# Altium schematic symbol library SEMATIK_LIB.SchLib: 632 symbols (part 7 of 21)
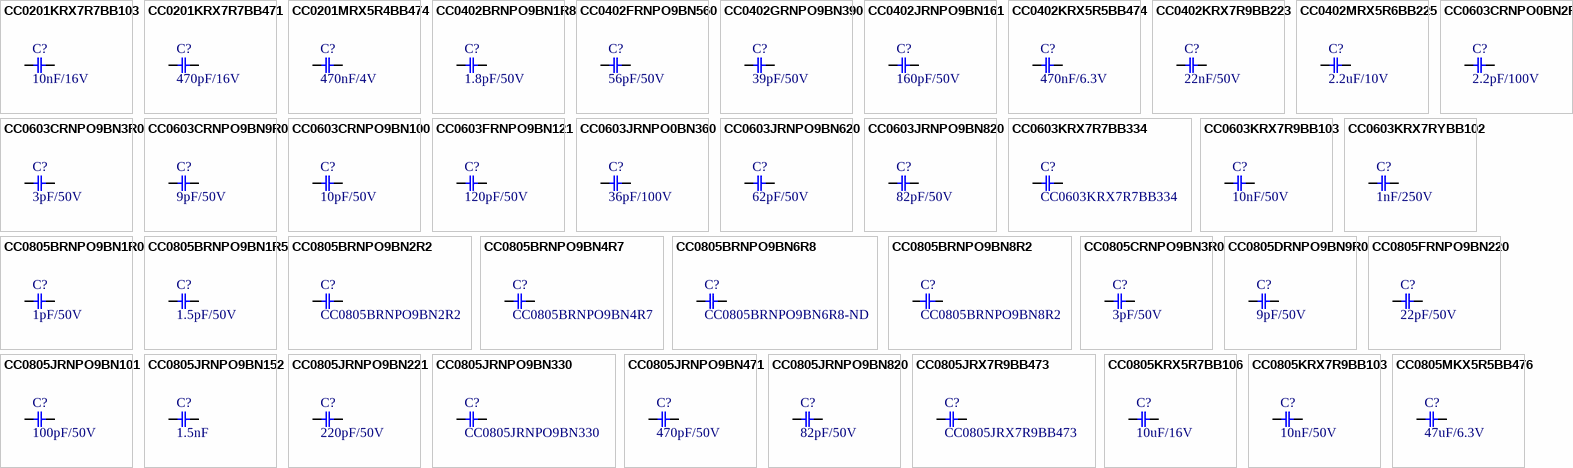
[diagram p22: symbols CC0201KRX7R7BB103 to CC0805MKX5R5BB476]

## CC0805JRNPO9BN101
designator C?, comment 100pF/50V
CAP CER pF 100 50V C0G/NPO 0805; Manufacturer 1: Yageo; Manufacturer Part Number 1: CC0805JRNPO9BN101; Description 1: CAP CER 100PF 50V C0G/NPO 0805; Dielectric Material: Ceramic; Capacitance: 100pF; Tolerance: 5%; Dielectric: C0G; Temperature Coefficient: 30ppm/°C; Insulation Resistance: 100GR; Supplier 1: Digi-Key; Stock 1: 619496; Pricing 1: 1=0.11, 10=0.079, 100=0.0351, 500=0.0251, 1000=0.01972 (USD); Mount: Surface Mount; Case/Package: 0805; Number of Pins: 2; Case Code (Imperial): 0805; Case Code (Metric): 2012; Min Operating Temperature: -55°C; Max Operating Temperature: 125°C; Packaging: Tape and Reel; Voltage Rating: 50V; Package Quantity: 1; Voltage Rating (DC): 50V; Termination: SMD/SMT; Composition: Ceramic; Voltage: 50V; Length: 2mm; Height: 0.6mm; Width: 1.25mm; Thickness: 0.024inch; Depth: 1.25mm; Radiation Hardening: No; REACH SVHC: No SVHC; Lead Free: Lead Free; ComponentLink1URL: http://www.mouser.com/ds/2/447/Yageo_UPY-GP_NP0_16V-to-50V_9-358835.pdf?src-supplier=Mouser; ComponentLink1Description: http://www.mouser.com/ds/2/447/Yageo_UPY-GP_NP0_16V-to-50V_9-358835.pdf?src-supplier=Mouser; ComponentLink2URL: https://www.verical.com/server-webapp/html/getDatasheet?partID=92514&src-supplier=Verical; ComponentLink2Description: https://www.verical.com/server-webapp/html/getDatasheet?partID=92514&src-supplier=Verical; ComponentLink3URL: http://www.yageo.com/documents/recent/UPY-GP_NP0_16V-to-50V_16.pdf?src-supplier=Digi-Key; ComponentLink3Description: http://www.yageo.com/documents/recent/UPY-GP_NP0_16V-to-50V_16.pdf?src-supplier=Digi-Key; ComponentLink4URL: http://www.yageo.com/documents/recent/UPY-GP_NP0_16V-to-50V_8.pdf?src-supplier=Avnet; ComponentLink4Description: http://www.yageo.com/documents/recent/UPY-GP_NP0_16V-to-50V_8.pdf?src-supplier=Avnet; ComponentLink5URL: http://www.farnell.com/datasheets/1443161.pdf?src-supplier=Element14; ComponentLink5Description: http://www.farnell.com/datasheets/1443161.pdf?src-supplier=Element14; Supplier Part Number 1: 311-1111-1-ND
footprint Cap_0805
pins: 1, 2

## CC0805JRNPO9BN152
designator C?, comment 1.5nF
CAP CER nF 1.5 50V C0G/NPO 0805; Manufacturer: Yageo; Manufacturer Part Number: CC0805JRNPO9BN152; Tolerance: 5%; Dielectric: C0G; Dissipation Factor: 0.1%; Insulation Resistance: 10GR; Supplier 1: Digi-Key; RoHS: Yes; Category: Ceramic Capacitors; Stock 1: 28698; Pricing 1: 1=0,23000, 10=0,15700, 50=0,10460, 100=0,08900, 500=0,06280, 1000=0,05496 (USD); Mount: Surface Mount; Case/Package: 0805; Number of Pins: 2; Case Code (Imperial): 0805; Case Code (Metric): 2012; Weight: 0.000194oz; Min Operating Temperature: -55°C; Max Operating Temperature: 125°C; Packaging: Tape and Reel; Capacitance: 1.5nF; Voltage Rating: 50V; Voltage Rating (DC): 50V; Termination: SMD/SMT; Resistor Type: Ceramic; Series: CC; Length: 2mm; Width: 1.25mm; Height: 0.85mm; Thickness: 0.037inch; Depth: 1.25mm; Radiation Hardening: No; Lead Free: Lead Free; RoHS Compliant: Yes; ComponentLink1URL: https://datasheet.ciiva.com/13263/upy-gp-np0-16v-to-50v-8-3714-13263546.pdf?src-supplier=Mouser; ComponentLink1Description: https://datasheet.ciiva.com/13263/upy-gp-np0-16v-to-50v-8-3714-13263546.pdf?src-supplier=Mouser; ComponentLink2URL: https://datasheet.ciiva.com/11586/upy-gp-np0-16v-to-50v-8-11586202.pdf?src-supplier=Avnet; ComponentLink2Description: https://datasheet.ciiva.com/11586/upy-gp-np0-16v-to-50v-8-11586202.pdf?src-supplier=Avnet; Supplier Part Number 1: 311-3381-1-ND
footprint Cap_0805
pins: 1, 2

## CC0805JRNPO9BN221
designator C?, comment 220pF/50V
CAP CER pF 220 50V C0G/NPO 0805; Manufacturer 1: Yageo; Manufacturer Part Number 1: CC0805JRNPO9BN221; Description 1: CAP CER 220PF 50V C0G/NPO 0805; Material: Ceramic; Capacitance: 220pF; Tolerance: 5%; Dielectric: C0G; Insulation Resistance: 100GR; Supplier 1: Digi-Key; Stock 1: 212566; Pricing 1: 1=0.13, 10=0.095, 100=0.0448, 500=0.03144, 1000=0.02603 (USD); Mount: Surface Mount; Case/Package: 0805; Case Code (Metric): 2012; Case Code (Imperial): 0805; Dielectric Material: Ceramic; Min Operating Temperature: -55°C; Max Operating Temperature: 125°C; Voltage Rating: 50V; Voltage Rating (DC): 50V; Packaging: Tape and Reel; Package Quantity: 1; Termination: SMD/SMT; Composition: Ceramic; Voltage: 50V; Length: 2mm; Height: 0.6mm; Width: 0.049inch; Thickness: 0.024inch; Depth: 1.25mm; Radiation Hardening: No; REACH SVHC: Unknown; Lead Free: Lead Free; ComponentLink1URL: http://www.yageo.com/documents/recent/UPY-GP_NP0_16V-to-50V_16.pdf?src-supplier=Digi-Key; ComponentLink1Description: http://www.yageo.com/documents/recent/UPY-GP_NP0_16V-to-50V_16.pdf?src-supplier=Digi-Key; ComponentLink2URL: http://www.yageo.com/documents/recent/UPY-GP_NP0_16V-to-50V_8.pdf?src-supplier=Avnet; ComponentLink2Description: http://www.yageo.com/documents/recent/UPY-GP_NP0_16V-to-50V_8.pdf?src-supplier=Avnet; ComponentLink3URL: http://www.farnell.com/datasheets/1443161.pdf?src-supplier=Element14; ComponentLink3Description: http://www.farnell.com/datasheets/1443161.pdf?src-supplier=Element14; Supplier Part Number 1: 311-1115-1-ND
footprint Cap_0805
pins: 1, 2

## CC0805JRNPO9BN330
designator C?
CAP CER pF 33 50V C0G/NPO 0805; Manufacturer 1: Yageo; Description 1: CAP CER 33PF 50V C0G/NPO 0805; Material: Ceramic; Capacitance: 33pF; Tolerance: 5%; Dielectric: C0G; Supplier 1: Digi-Key; Manufacturer Part Number 1: CC0805JRNPO9BN330; Stock 1: 205747; Pricing 1: 1=0.11, 10=0.079, 100=0.0352, 500=0.02514, 1000=0.01975 (USD); Mount: Surface Mount; Case/Package: 0805; Case Code (Imperial): 0805; Case Code (Metric): 2012; Dielectric Material: Ceramic; Min Operating Temperature: -55°C; Max Operating Temperature: 125°C; Package Quantity: 1; Voltage Rating: 50V; Voltage Rating (DC): 50V; Packaging: Tape and Reel; Termination: SMD/SMT; Composition: Ceramic; Voltage: 50V; Length: 2mm; Height: 0.6mm; Width: 1.25mm; Thickness: 0.024inch; Depth: 1.25mm; Radiation Hardening: No; REACH SVHC: Unknown; Lead Free: Lead Free; ComponentLink1URL: http://www.yageo.com/documents/recent/UPY-GP_NP0_16V-to-50V_8.pdf?src-supplier=Avnet+Europe; ComponentLink1Description: http://www.yageo.com/documents/recent/UPY-GP_NP0_16V-to-50V_8.pdf?src-supplier=Avnet+Europe; ComponentLink2URL: http://www.farnell.com/datasheets/1443161.pdf?src-supplier=Element14; ComponentLink2Description: http://www.farnell.com/datasheets/1443161.pdf?src-supplier=Element14; ComponentLink3URL: http://www.yageo.com/documents/recent/UPY-GP_NP0_16V-to-50V_16.pdf?src-supplier=Digi-Key; ComponentLink3Description: http://www.yageo.com/documents/recent/UPY-GP_NP0_16V-to-50V_16.pdf?src-supplier=Digi-Key; ComponentLink4URL: http://www.yageo.com/documents/recent/UPY-GP_NP0_16V-to-50V_8.pdf?src-supplier=Avnet; ComponentLink4Description: http://www.yageo.com/documents/recent/UPY-GP_NP0_16V-to-50V_8.pdf?src-supplier=Avnet; ComponentLink5URL: https://produktinfo.conrad.com/datenblaetter/425000-449999/445349-da-01-en-KERKO_CHIP_0805_NP0_33pF_5Proz_50V_G.pdf?src-supplier=Conrad; ComponentLink5Description: https://produktinfo.conrad.com/datenblaetter/425000-449999/445349-da-01-en-KERKO_CHIP_0805_NP0_33pF_5Proz_50V_G.pdf?src-supplier=Conrad; Supplier Part Number 1: 311-1105-1-ND
footprint Cap_0805
pins: 1, 2

## CC0805JRNPO9BN471
designator C?, comment 470pF/50V
CAP CER pF 470 50V C0G/NPO 0805; Manufacturer 1: Yageo; Manufacturer Part Number 1: CC0805JRNPO9BN471; Description 1: CAP CER 470PF 50V C0G/NPO 0805; Material: Ceramic; Capacitance: 470pF; Tolerance: 5%; Dielectric: C0G; Temperature Coefficient: 30ppm/°C; Insulation Resistance: 100GR; Supplier 1: Digi-Key; Stock 1: 322742; Pricing 1: 1=0.13, 10=0.095, 100=0.0448, 500=0.03144, 1000=0.02603 (USD); Mount: Surface Mount; Case/Package: 0805; Case Code (Metric): 2012; Case Code (Imperial): 0805; Dielectric Material: Ceramic; Min Operating Temperature: -55°C; Max Operating Temperature: 125°C; Voltage Rating: 50V; Voltage Rating (DC): 50V; Package Quantity: 4000; Packaging: Tape and Reel; Termination: SMD/SMT; Composition: Ceramic; Voltage: 50V; Length: 2mm; Height: 0.6mm; Width: 0.049inch; Thickness: 0.024inch; Depth: 1.25mm; Radiation Hardening: No; REACH SVHC: Unknown; Lead Free: Lead Free; ComponentLink1URL: http://www.farnell.com/datasheets/2213336.pdf?src-supplier=Newark; ComponentLink1Description: http://www.farnell.com/datasheets/2213336.pdf?src-supplier=Newark; ComponentLink2URL: http://www.yageo.com/documents/recent/UPY-GP_NP0_16V-to-50V_16.pdf?src-supplier=Digi-Key; ComponentLink2Description: http://www.yageo.com/documents/recent/UPY-GP_NP0_16V-to-50V_16.pdf?src-supplier=Digi-Key; ComponentLink3URL: http://www.farnell.com/datasheets/1443161.pdf?src-supplier=Element14; ComponentLink3Description: http://www.farnell.com/datasheets/1443161.pdf?src-supplier=Element14; ComponentLink4URL: http://documents.rs-components.com/techlib://itc_doclist_GB.htm?stockno=6698928&src-supplier=RSComponents; ComponentLink4Description: http://documents.rs-components.com/techlib://itc_doclist_GB.htm?stockno=6698928&src-supplier=RSComponents; ComponentLink5URL: http://www.yageo.com/documents/recent/UPY-GP_NP0_16V-to-50V_8.pdf?src-supplier=Avnet+Europe; ComponentLink5Description: http://www.yageo.com/documents/recent/UPY-GP_NP0_16V-to-50V_8.pdf?src-supplier=Avnet+Europe; ComponentLink6URL: http://www.farnell.com/datasheets/2213336.pdf?src-supplier=Element14; ComponentLink6Description: http://www.farnell.com/datasheets/2213336.pdf?src-supplier=Element14; Supplier Part Number 1: 311-1119-6-ND
footprint Cap_0805
pins: 1, 2

## CC0805JRNPO9BN820
designator C?, comment 82pF/50V
CAP CER pF 82 50V C0G/NPO 0805; Manufacturer: Yageo; Manufacturer Part Number: CC0805JRNPO9BN820; Material: Ceramic; Capacitance: 82pF; Tolerance: 5%; Dielectric: C0G; Supplier 1: Digi-Key; RoHS: Yes; Category: Ceramic Capacitors; Stock 1: 76000; Pricing 1: 4000=0,01566, 8000=0,01430 (USD); Mount: Surface Mount; Case/Package: 0805; Case Code (Imperial): 0805; Case Code (Metric): 2012; Weight: 0.000194oz; Min Operating Temperature: -55°C; Max Operating Temperature: 125°C; Package Quantity: 1; Voltage Rating: 50V; Voltage Rating (DC): 50V; Packaging: Tape and Reel; Termination: SMD/SMT; Resistor Type: Ceramic; Series: CC; Length: 2mm; Width: 1.25mm; Height: 0.6mm; Thickness: 0.024inch; Depth: 1.25mm; Radiation Hardening: No; Lead Free: Lead Free; RoHS Compliant: Yes; ComponentLink1URL: https://datasheet.ciiva.com/15189/getdatasheetpartid-137824-15189191.pdf?src-supplier=Verical; ComponentLink1Description: https://datasheet.ciiva.com/15189/getdatasheetpartid-137824-15189191.pdf?src-supplier=Verical; ComponentLink2URL: https://datasheet.ciiva.com/144/mlccorderingcode-144858.pdf?src-supplier=Digi-Key; ComponentLink2Description: https://datasheet.ciiva.com/144/mlccorderingcode-144858.pdf?src-supplier=Digi-Key; ComponentLink3URL: https://datasheet.ciiva.com/11586/upy-gp-np0-16v-to-50v-8-11586219.pdf?src-supplier=Avnet; ComponentLink3Description: https://datasheet.ciiva.com/11586/upy-gp-np0-16v-to-50v-8-11586219.pdf?src-supplier=Avnet; ComponentLink4URL: https://datasheet.ciiva.com/17434/upy-gp-np0-16v-to-50v-8-17434828.pdf?src-supplier=Avnet+Europe; ComponentLink4Description: https://datasheet.ciiva.com/17434/upy-gp-np0-16v-to-50v-8-17434828.pdf?src-supplier=Avnet+Europe; ComponentLink5URL: https://datasheet.ciiva.com/144/mlccorderingcode-144857.pdf?src-supplier=Digi-Key; ComponentLink5Description: https://datasheet.ciiva.com/144/mlccorderingcode-144857.pdf?src-supplier=Digi-Key; ComponentLink6URL: https://datasheet.ciiva.com/144/mlccorderingcode-144859.pdf?src-supplier=Digi-Key; ComponentLink6Description: https://datasheet.ciiva.com/144/mlccorderingcode-144859.pdf?src-supplier=Digi-Key; Supplier Part Number 1: 311-1110-2-ND
footprint Cap_0805
pins: 1, 2

## CC0805JRX7R9BB473
designator C?
CAP CER nF 47 50V X7R 5% 0805; Manufacturer 1: Yageo; Description 1: Multilayer Ceramic Capacitors MLCC - SMD/SMT 47nF 50V X7R 5%; Capacitance: 47nF; Supplier 1: Digi-Key; Manufacturer Part Number 1: CC0805JRX7R9BB473; Stock 1: 9419; Pricing 1: 1=0.18, 10=0.128, 100=0.06, 500=0.04206, 1000=0.03482 (USD); Mount: Surface Mount; Case/Package: 0805; Weight: 0.000194oz; Case Code (Imperial): 0805; Case Code (Metric): 2012; Min Operating Temperature: -55°C; Max Operating Temperature: 125°C; Tolerance: 5%; Voltage Rating: 50V; Voltage Rating (DC): 50V; Packaging: Tape and Reel; Dielectric: X7R; Termination: SMD/SMT; Composition: Ceramic; Length: 2mm; Height: 0.85mm; Width: 1.25mm; Thickness: 0.037inch; Depth: 1.25mm; Radiation Hardening: No; Lead Free: Lead Free; Halogen Free: Halogen Free; ComponentLink1URL: http://www.yageo.com/documents/recent/UPY-GPHC_X7R_6.3V-to-50V_8.pdf?src-supplier=Avnet+Europe; ComponentLink1Description: http://www.yageo.com/documents/recent/UPY-GPHC_X7R_6.3V-to-50V_8.pdf?src-supplier=Avnet+Europe; ComponentLink2URL: http://www.yageo.com/documents/recent/UPY-GPHC_X7R_6.3V-to-50V_8.pdf?src-supplier=Avnet; ComponentLink2Description: http://www.yageo.com/documents/recent/UPY-GPHC_X7R_6.3V-to-50V_8.pdf?src-supplier=Avnet; ComponentLink3URL: http://www.mouser.com/ds/2/447/Yageo_UPY-GP_NP0_16V-to-50V_9-358835.pdf?src-supplier=Mouser; ComponentLink3Description: http://www.mouser.com/ds/2/447/Yageo_UPY-GP_NP0_16V-to-50V_9-358835.pdf?src-supplier=Mouser; ComponentLink4URL: https://www.verical.com/server-webapp/html/getDatasheet?partID=403673&src-supplier=Verical; ComponentLink4Description: https://www.verical.com/server-webapp/html/getDatasheet?partID=403673&src-supplier=Verical; Supplier Part Number 1: 311-3553-1-ND
footprint Cap_0805
pins: 1, 2

## CC0805KRX5R7BB106
designator C?, comment 10uF/16V
CAP CER uF 10 16V X5R 0805; Manufacturer: Yageo; Manufacturer Part Number: CC0805KRX5R7BB106; Capacitance: 10uF; Tolerance: 10%; Supplier 1: Digi-Key; RoHS: Yes; Category: Ceramic Capacitors; Stock 1: 1087288; Pricing 1: 1=0,57000, 10=0,39400, 50=0,27540, 100=0,23610, 500=0,17708, 1000=0,14954 (USD); Mount: Surface Mount; Case/Package: 0805; Case Code (Imperial): 0805; Case Code (Metric): 2012; Min Operating Temperature: -55°C; Max Operating Temperature: 85°C; Packaging: Tape and Reel; Voltage Rating: 16V; RoHS Compliant: Yes; ComponentLink1URL: http://www.yageo.com/documents/recent/UPY-GPHC_X5R_4V-to-50V_25.pdf?src-supplier=Digi-Key; ComponentLink1Description: http://www.yageo.com/documents/recent/UPY-GPHC_X5R_4V-to-50V_25.pdf?src-supplier=Digi-Key; Supplier Part Number 1: 311-3502-1-ND
footprint Cap_0805
pins: 1, 2

## CC0805KRX7R9BB103
designator C?, comment 10nF/50V
CAP CER nF 10 50V X7R 0805; Manufacturer 1: Yageo; Manufacturer Part Number 1: CC0805KRX7R9BB103; Description 1: YAGEO (PHYCOMP)         CC0805KRX7R9BB103            SMD Multilayer Ceramic Capacitor, CC Series, 0.01 F,  10%, X7R, 50 V, 0805 [2012 Metric]; Material: Ceramic; Capacitance: 10nF; Tolerance: 10%; Insulation Resistance: 100GR; Supplier 1: Digi-Key; Stock 1: 7864628; Pricing 1: 1=0.1, 10=0.07, 100=0.0313, 500=0.02234, 1000=0.01755 (USD); Mount: Surface Mount; Case/Package: 0805; Number of Pins: 2; Case Code (Imperial): 0805; Case Code (Metric): 2012; Min Operating Temperature: -55°C; Max Operating Temperature: 125°C; Packaging: Tape and Reel; Voltage Rating: 50V; Package Quantity: 1; Voltage Rating (DC): 50V; Dielectric: X7R; Termination: SMD/SMT; Composition: Ceramic; Voltage: 50V; Length: 2mm; Height: 0.6mm; Width: 1.25mm; Thickness: 0.024inch; Depth: 1.25mm; Radiation Hardening: No; REACH SVHC: No SVHC; Lead Free: Lead Free; Halogen Free: Halogen Free; ComponentLink1URL: http://www.yageo.com/documents/recent/UPY-GPHC_X7R_6.3V-to-50V_18.pdf?src-supplier=Digi-Key; ComponentLink1Description: http://www.yageo.com/documents/recent/UPY-GPHC_X7R_6.3V-to-50V_18.pdf?src-supplier=Digi-Key; ComponentLink2URL: http://www.yageo.com/documents/recent/UPY-GPHC_X7R_6.3V-to-50V_8.pdf?src-supplier=Avnet+Europe; ComponentLink2Description: http://www.yageo.com/documents/recent/UPY-GPHC_X7R_6.3V-to-50V_8.pdf?src-supplier=Avnet+Europe; ComponentLink3URL: http://www.farnell.com/datasheets/2167236.pdf?src-supplier=Element14; ComponentLink3Description: http://www.farnell.com/datasheets/2167236.pdf?src-supplier=Element14; ComponentLink4URL: http://www.farnell.com/datasheets/1489800.pdf?src-supplier=Element14; ComponentLink4Description: http://www.farnell.com/datasheets/1489800.pdf?src-supplier=Element14; Supplier Part Number 1: 311-1136-1-ND
footprint Cap_0805
pins: 1, 2

## CC0805MKX5R5BB476
designator C?, comment 47uF/6.3V
CAP CER uF 47 6.3V X5R 0805; Manufacturer: Yageo; Manufacturer Part Number: CC0805MKX5R5BB476; Capacitance: 47uF; Tolerance: 20%; Supplier 1: Digi-Key; Stock 1: 24000; Pricing 1: 3000 = 0,10022, 6000 = 0,09466, 9000 = 0,08909, 15000 = 0,08630 (USD); RoHS: Yes; Mount: Surface Mount; Case/Package: 0805; Weight: 0.000194oz; Case Code (Imperial): 0805; Case Code (Metric): 2012; Min Operating Temperature: -55°C; Max Operating Temperature: 85°C; Dielectric: X5R; Packaging: Tape and Reel; Voltage Rating (DC): 6.3V; Voltage Rating: 6.3V; Termination: SMD/SMT; Composition: Ceramic; Length: 2mm; Width: 0.049inch; Thickness: 0.057inch; Depth: 1.25mm; Radiation Hardening: No; Lead Free: Lead Free; Halogen Free: Halogen Free; ComponentLink1URL: http://components.arrow.com/part/dataview/0323_04166612?src-supplier=Arrow+Europe; ComponentLink1Description: http://components.arrow.com/part/dataview/0323_04166612?src-supplier=Arrow+Europe; ComponentLink2URL: http://www.mouser.com/ds/2/447/UPY-GPHC_X5R_4V-to-50V_25-1131599.pdf?src-supplier=Mouser; ComponentLink2Description: http://www.mouser.com/ds/2/447/UPY-GPHC_X5R_4V-to-50V_25-1131599.pdf?src-supplier=Mouser; ComponentLink3URL: http://www.yageo.com/documents/recent/UPY-GPHC_X5R_4V-to-50V_19.pdf?src-supplier=Avnet; ComponentLink3Description: http://www.yageo.com/documents/recent/UPY-GPHC_X5R_4V-to-50V_19.pdf?src-supplier=Avnet; ComponentLink4URL: http://www.yageo.com/documents/recent/UPY-GPHC_X5R_4V-to-50V_25.pdf?src-supplier=Digi-Key; ComponentLink4Description: http://www.yageo.com/documents/recent/UPY-GPHC_X5R_4V-to-50V_25.pdf?src-supplier=Digi-Key; Supplier Part Number 1: 311-1897-2-ND
footprint Cap_0805
pins: 1, 2

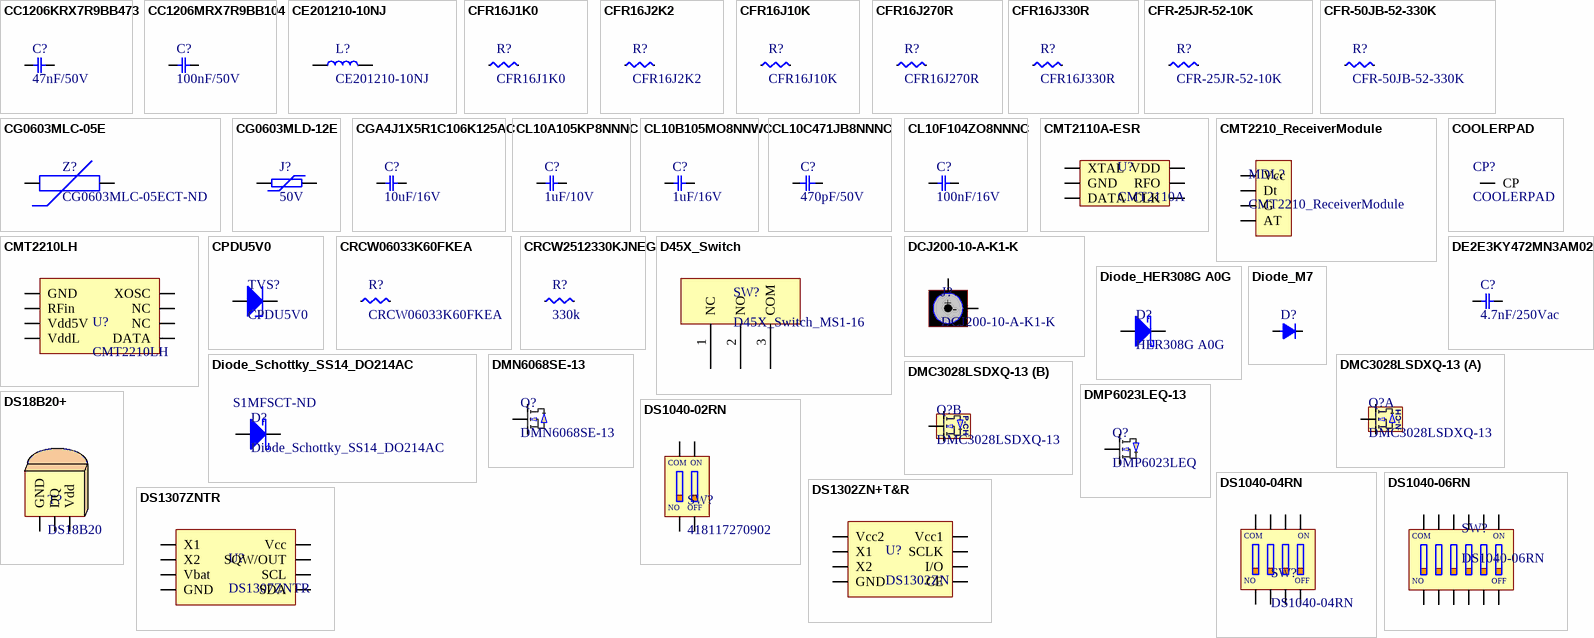
[diagram p5: symbols CC1206KRX7R9BB473 to DS1307ZNTR]

## CC1206KRX7R9BB473
designator C?, comment 47nF/50V
CAP CER nF 47 50V X7R 1206; Manufacturer 1: Yageo; Manufacturer Part Number 1: CC1206KRX7R9BB473; Description 1: CAP CER 0.047UF 50V X7R 1206; Material: Ceramic; Tolerance: 10%; Capacitance: 47nF; Insulation Resistance: 100GR; Supplier 1: Digi-Key; Stock 1: 98286; Pricing 1: 1=0.24, 10=0.167, 100=0.0844, 500=0.05772, 1000=0.05106 (USD); Mount: Surface Mount; Case/Package: 1206; Number of Pins: 2; Weight: 0.000571oz; Case Code (Metric): 3216; Case Code (Imperial): 1206; Dielectric Material: Ceramic; Min Operating Temperature: -55°C; Max Operating Temperature: 125°C; Packaging: Tape and Reel; Package Quantity: 1; Voltage Rating: 50V; Voltage Rating (DC): 50V; Dielectric: X7R; Termination: SMD/SMT; Composition: Ceramic; Voltage: 50V; Length: 3.2mm; Height: 0.85mm; Width: 1.6mm; Thickness: 0.033inch; Depth: 1.6mm; Radiation Hardening: No; REACH SVHC: Unknown; Lead Free: Lead Free; Halogen Free: Halogen Free; ComponentLink1URL: http://www.yageo.com/documents/recent/UPY-GPHC_X7R_6.3V-to-50V_18.pdf?src-supplier=Digi-Key; ComponentLink1Description: http://www.yageo.com/documents/recent/UPY-GPHC_X7R_6.3V-to-50V_18.pdf?src-supplier=Digi-Key; ComponentLink2URL: http://www.yageo.com/documents/recent/UPY-GPHC_X7R_6.3V-to-50V_8.pdf?src-supplier=Avnet; ComponentLink2Description: http://www.yageo.com/documents/recent/UPY-GPHC_X7R_6.3V-to-50V_8.pdf?src-supplier=Avnet; ComponentLink3URL: https://produktinfo.conrad.com/datenblaetter/425000-449999/445149-da-01-en-KERKO_CHIP_1206_X7R_0_047uF_10Proz_50VG.pdf?src-supplier=Conrad; ComponentLink3Description: https://produktinfo.conrad.com/datenblaetter/425000-449999/445149-da-01-en-KERKO_CHIP_1206_X7R_0_047uF_10Proz_50VG.pdf?src-supplier=Conrad; Supplier Part Number 1: 311-1178-1-ND
footprint Cap_1206
pins: 1, 2

## CC1206MRX7R9BB104
designator C?, comment 100nF/50V
CAP CER nF 100 50V X7R 1206; Manufacturer: Yageo; Manufacturer Part Number: CC1206MRX7R9BB104; Tolerance: 20%; Capacitance: 100nF; Supplier 1: Digi-Key; Stock 1: 28261; Pricing 1: 1 = 0,16000, 10 = 0,11200, 50 = 0,06360, 100 = 0,05260, 500 = 0,03690, 1000 = 0,03055 (USD); RoHS: Yes; Mount: Surface Mount; Case/Package: 1206; Case Code (Imperial): 1206; Case Code (Metric): 3216; Weight: 0.000571oz; Min Operating Temperature: -55°C; Max Operating Temperature: 125°C; Packaging: Tape and Reel; Voltage Rating (DC): 50V; Dielectric: X7R; Termination: SMD/SMT; Resistor Type: Ceramic; Voltage Rating: 50V; Series: CC; Length: 3.2mm; Width: 1.6mm; Thickness: 0.037inch; Depth: 1.6mm; Lead Free: Lead Free; Halogen Free: Halogen Free; RoHS Compliant: Yes; ComponentLink1URL: https://datasheet.ciiva.com/13264/upy-gp-np0-16v-to-50v-8-3714-13264939.pdf?src-supplier=Mouser; ComponentLink1Description: https://datasheet.ciiva.com/13264/upy-gp-np0-16v-to-50v-8-3714-13264939.pdf?src-supplier=Mouser; Supplier Part Number 1: 311-4502-1-ND
footprint Cap_1206
pins: 1, 2

## CE201210-10NJ
designator L?
Inductor Chip Multi-Layer 10nH 5% 100MHz 20Q-Factor Ceramic 300mA 300mOhm DCR 0805 Automotive T/R; Manufacturer 1: Bourns; Shielding: Unshielded; Q Factor: 20; Self Resonant Frequency: 2.1GHz; DC Resistance (DCR): 300mR; Supplier 1: Digi-Key; Manufacturer Part Number 1: CE201210-10NJ; Description 1: Inductor Chip Multi-Layer 10nH 5% 100MHz 20Q-Factor Ceramic 300mA 300mOhm DCR 0805 Automotive T/R; Stock 1: 23246; Pricing 1: 1=0.12, 10=0.104, 100=0.069, 500=0.0575, 1000=0.0483 (USD); Mount: Surface Mount; Case/Package: 0805; Weight: 0.000194oz; Case Code (Metric): 2012; Case Code (Imperial): 0805; Core Material: Ceramic; Min Operating Temperature: -55°C; Max Operating Temperature: 125°C; Package Quantity: 4000; Current Rating: 300mA; Tolerance: 5%; Packaging: Tape and Reel; Inductance: 10nH; Test Frequency: 100MHz; Current: 300mA; Composition: Ceramic; Max DC Current: 300mA; Termination: SMD/SMT; DC Current: 300mA; Military Standard: Not; Length: 0.079inch; Height: 0.83mm; Width: 0.049inch; Height - Seated (Max): 0.041inch; Depth: 1.45mm; Radiation Hardening: No; ComponentLink1URL: http://www.bourns.com/pdfs/CE201210.pdf?src-supplier=Avnet+Europe; ComponentLink1Description: http://www.bourns.com/pdfs/CE201210.pdf?src-supplier=Avnet+Europe; Supplier Part Number 1: CE201210-10NJCT-ND
footprint Cap_0805
pins: 1, 2

## CFR16J1K0
designator R?
RES Carbon Film 1K Ohm 5% 0.25W -1200  0ppm/C; Manufacturer 1: TE Connectivity; Description 1: TE Connectivity CFR16 Series Axial Carbon Film Resistor 1k 5% 0.25W -1200  0ppm/C; Resistance: 1kR; Power Rating: 250mW; Temperature Coefficient: 0ppm/°C; Voltage Rating: 200V; Number of Resistors: 1; Supplier 1: Digi-Key; Manufacturer Part Number 1: CFR16J1K0; Stock 1: 16097; Pricing 1: 1=0.1, 10=0.074, 25=0.0512, 50=0.0396, 100=0.0284, 250=0.02212, 500=0.01758, 1000=0.01247 (USD); Mount: Axial; Case/Package: Conformal; Min Operating Temperature: -55°C; Max Operating Temperature: 155°C; Tolerance: 5%; Composition: Thin Film; Termination: Axial; Packaging: Ammo Pack; Number of Terminations: 2; Voltage Rating (DC): 200V; Diameter: 1.85mm; Length: 3.5mm; Radiation Hardening: No; REACH SVHC: No SVHC; ELV: Compliant; ComponentLink1URL: http://www.onlinecomponents.com/productFiles/mf-NH/eng_ds_1773195_d.pdf?src-supplier=Onlinecomponents.com; ComponentLink1Description: http://www.onlinecomponents.com/productFiles/mf-NH/eng_ds_1773195_d.pdf?src-supplier=Onlinecomponents.com; ComponentLink2URL: http://uk.rs-online.com/webdocs/0098/0900766b80098b49.pdf?src-supplier=RSComponents; ComponentLink2Description: http://uk.rs-online.com/webdocs/0098/0900766b80098b49.pdf?src-supplier=RSComponents; ComponentLink3URL: http://www.farnell.com/datasheets/1723854.pdf?src-supplier=Element14; ComponentLink3Description: http://www.farnell.com/datasheets/1723854.pdf?src-supplier=Element14; Supplier Part Number 1: A104669CT-ND
footprint RES_DIP_1.85X3.5
footprint RES_DIP_1.85X3.5+RES_1206
pins: 1, 2

## CFR16J2K2
designator R?
Res Carbon Film 2.2K Ohm 5% 1/4W -1200ppm/°C to 0ppm/°C Conformal AXL Thru-Hole Ammo Pack; Manufacturer 1: TE Connectivity; Voltage Rating: 200V; Resistance: 2.2kR; Power Rating: 250mW; Number of Resistors: 1; Supplier 1: Digi-Key; Manufacturer Part Number 1: CFR16J2K2; Description 1: Res Carbon Film 2.2K Ohm 5% 1/4W -1200ppm/°C to 0ppm/°C Conformal AXL Thru-Hole Ammo Pack; Stock 1: 11224; Pricing 1: 1=0.1, 10=0.074, 25=0.0512, 50=0.0396, 100=0.0284, 250=0.02212, 500=0.01758, 1000=0.01247 (USD); Mount: Axial; Case/Package: Conformal; Min Operating Temperature: -55°C; Max Operating Temperature: 155°C; Tolerance: 5%; Composition: Thin Film; Termination: Axial; Temperature Coefficient: 0ppm/°C; Packaging: Ammo Pack; Voltage Rating (DC): 200V; Number of Terminations: 2; Diameter: 1.85mm; Length: 3.5mm; REACH SVHC: No SVHC; ELV: Compliant; ComponentLink1URL: http://uk.rs-online.com/webdocs/0098/0900766b80098b49.pdf?src-supplier=RSComponents; ComponentLink1Description: http://uk.rs-online.com/webdocs/0098/0900766b80098b49.pdf?src-supplier=RSComponents; Supplier Part Number 1: A105880CT-ND
footprint RES_DIP_1.85X3.5
footprint RES_DIP_1.85X3.5+RES_1206
pins: 1, 2

## CFR16J10K
designator R?
RES Carbon Film 10K Ohm 5% 0.25W -1200  0ppm/C; Manufacturer 1: TE Connectivity; Description 1: TE Connectivity CFR16 Series Axial Carbon Film Resistor 10k 5% 0.25W -1200  0ppm/C; Resistance: 10kR; Temperature Coefficient: 0ppm/°C; Power Rating: 250mW; Voltage Rating: 200V; Number of Resistors: 1; Lead Diameter: 0.45mm; Supplier 1: Digi-Key; Manufacturer Part Number 1: CFR16J10K; Stock 1: 8753; Pricing 1: 1=0.1, 10=0.074, 25=0.0512, 50=0.0396, 100=0.0284, 250=0.02212, 500=0.01758, 1000=0.01247 (USD); Mount: Axial; Case/Package: Conformal; Min Operating Temperature: -55°C; Max Operating Temperature: 155°C; Tolerance: 5%; Composition: Thin Film; Termination: Axial; Packaging: Ammo Pack; Number of Terminations: 2; Voltage Rating (DC): 200V; Diameter: 1.85mm; Length: 3.5mm; ELV: Compliant; REACH SVHC: No SVHC; ComponentLink1URL: http://uk.rs-online.com/webdocs/0098/0900766b80098b49.pdf?src-supplier=RSComponents; ComponentLink1Description: http://uk.rs-online.com/webdocs/0098/0900766b80098b49.pdf?src-supplier=RSComponents; ComponentLink2URL: http://www.mouser.com/ds/2/418/NG_CD_1623927_BA-677768.pdf?src-supplier=Mouser; ComponentLink2Description: http://www.mouser.com/ds/2/418/NG_CD_1623927_BA-677768.pdf?src-supplier=Mouser; Supplier Part Number 1: A104668CT-ND
footprint RES_DIP_1.85X3.5
footprint RES_DIP_1.85X3.5+RES_1206
pins: 1, 2

## CFR16J270R
designator R?
Res Carbon Film 270 Ohm 5% 1/4W -1200ppm/C to 0ppm/C Conformal AXL Thru-Hole Ammo Pack; Manufacturer 1: TE Connectivity AMP; Resistance: 270R; Temperature Coefficient: 0ppm/°C; Voltage Rating (DC): 200V; Supplier 1: Digi-Key; Manufacturer Part Number 1: CFR16J270R; Description 1: Res Carbon Film 270 Ohm 5% 1/4W -1200ppm/C to 0ppm/C Conformal AXL Thru-Hole Ammo Pack; Stock 1: 9849; Pricing 1: 1=0.1, 10=0.074, 25=0.0512, 50=0.0396, 100=0.0284, 250=0.02212, 500=0.01758, 1000=0.01247 (USD); Mount: Through Hole; Case/Package: Conformal; Min Operating Temperature: -55°C; Max Operating Temperature: 155°C; Packaging: Tape and Reel; Tolerance: 5%; Composition: Carbon Film; Diameter: 1.8mm; Length: 3.4mm; Radiation Hardening: No; REACH SVHC: No SVHC; ELV: Compliant; Supplier Part Number 1: A129435CT-ND
footprint RES_DIP_1.85X3.5
footprint RES_DIP_1.85X3.5+RES_1206
pins: 1, 2

## CFR16J330R
designator R?
RES CARBON FILM 330 OHM 5% 1/4W; Manufacturer 1: TE Connectivity; Description 1: Carbon Film Resistors - Through Hole 330Ohm 1/4W 1200PPM; Resistance: 330R; Power Rating: 250mW; Voltage Rating: 200V; Temperature Coefficient: 0ppm/°C; Number of Resistors: 1; Supplier 1: Digi-Key; Manufacturer Part Number 1: CFR16J330R; Stock 1: 3891; Pricing 1: 1=0.1, 10=0.074, 25=0.0512, 50=0.0396, 100=0.0284, 250=0.02212, 500=0.01758, 1000=0.01247 (USD); Mount: Axial; Case/Package: Axial; Min Operating Temperature: -55°C; Max Operating Temperature: 155°C; Tolerance: 5%; Composition: Thin Film; Termination: Axial; Packaging: Ammo Pack; Voltage Rating (DC): 200V; Number of Terminations: 2; Length: 3.5mm; REACH SVHC: No SVHC; ELV: Compliant; ComponentLink1URL: http://www.farnell.com/datasheets/1723854.pdf?src-supplier=Element14; ComponentLink1Description: http://www.farnell.com/datasheets/1723854.pdf?src-supplier=Element14; ComponentLink2URL: http://www.onlinecomponents.com/productFiles/mf-AMP/eng_ds_1773195_d.pdf?src-supplier=Onlinecomponents.com; ComponentLink2Description: http://www.onlinecomponents.com/productFiles/mf-AMP/eng_ds_1773195_d.pdf?src-supplier=Onlinecomponents.com; ComponentLink3URL: https://www.alliedelec.com/m/d/5c22b21fcadf6efc3f053d50cbf71e24.pdf?src-supplier=Allied+Electronics; ComponentLink3Description: https://www.alliedelec.com/m/d/5c22b21fcadf6efc3f053d50cbf71e24.pdf?src-supplier=Allied+Electronics; Supplier Part Number 1: A129436CT-ND
footprint RES_DIP_1.85X3.5
footprint RES_DIP_1.85X3.5+RES_1206
pins: 1, 2

## CFR-25JR-52-10K
designator R?
RES 10K OHM 1/4W 5% AXIAL; Manufacturer: Yageo; Power (Watts): 0.25W, 1/4W; Temperature Coefficient: -350/ +500ppm/°C; Supplier 1: Digi-Key; Manufacturer Part Number: CFR-25JR-52-10K; RoHS: RoHS Compliant; Category: Resistors; Stock 1: 590000; Pricing 1: 5000=0.00749, 10000=0.0065, 25000=0.00571, 50000=0.00524, 125000=0.00513 (USD); Packaging: Tape & Reel (TR); Part Status: Active; Tolerance: ±5%; Composition: Carbon Film; Features: -; Operating Temperature: -55°C ~ 155°C; Package / Case: Axial; Supplier Device Package: Axial; Size / Dimension: 0.094" Dia x 0.248" L (2.40mm x 6.30mm); Height - Seated (Max): -; Failure Rate: -; ComponentLink1URL: http://www.yageo.com/documents/recent/Yageo%20LR_CFR_2013.pdf; ComponentLink1Description: http://www.yageo.com/documents/recent/Yageo%20LR_CFR_2013.pdf; Supplier Part Number 1: 10KQTR-ND
footprint R_DIP_400mil
pins: 1, 2

## CFR-50JB-52-330K
designator R?
RES 330K OHM 1/2W 5% AXIAL; Manufacturer 1: Yageo; Resistance: 330kR; Temperature Coefficient: -700ppm/°C; Max Power Dissipation: 500mW; Supplier 1: Digi-Key; Manufacturer Part Number 1: CFR-50JB-52-330K; Description 1: RES 330K OHM 1/2W 5% AXIAL; Stock 1: 6952; Pricing 1: 1=0.11, 10=0.098, 25=0.068, 50=0.053, 100=0.0378, 250=0.02948, 500=0.02344, 1000=0.01663, 5000=0.01285 (USD); Case/Package: Axial; Min Operating Temperature: -55°C; Max Operating Temperature: 155°C; Package Quantity: 200; Packaging: Bulk; Tolerance: 5%; Composition: Carbon Film; Number of Terminations: 2; Length: 0.354inch; Supplier Part Number 1: 330KH-ND
pins: 1, 2

## CG0603MLC-05E
designator Z?, comment CG0603MLC-05ECT-ND
VARISTOR 0603; Manufacturer: Bourns Inc.; Capacitance @ Frequency: 0.5pF @ 1MHz; Supplier 1: Digi-Key; Manufacturer Part Number: CG0603MLC-05E; RoHS: RoHS Compliant; Category: Circuit Protection; Stock 1: 160739; Pricing 1: 1=0.44, 10=0.367, 25=0.3208, 100=0.275, 250=0.23836, 500=0.20168, 1000=0.15584, 2500=0.14209 (USD); Packaging: Cut Tape (CT); Part Status: Active; Energy: -; Operating Temperature: -40°C ~ 85°C (TA); Mounting Type: Surface Mount, MLCV; Package / Case: 0603 (1608 Metric); ComponentLink1URL: http://www.bourns.com/docs/Product-Datasheets/MLC.pdf; ComponentLink1Description: http://www.bourns.com/docs/Product-Datasheets/MLC.pdf; Supplier Part Number 1: CG0603MLC-05ECT-ND; Supplier 2: Digi-Key; Stock 2: 18333; Pricing 2: 1=0.56, 10=0.393, 25=0.3228, 100=0.2583, 250=0.18788 (USD); ComponentLink2URL: https://www.bourns.com/docs/Product-Datasheets/MOV10D.pdf; ComponentLink2Description: https://www.bourns.com/docs/Product-Datasheets/MOV10D.pdf; Supplier Part Number 2: MOV-10D471KTRCT-ND
footprint R0603
pins: 1, 2

## CG0603MLD-12E
designator J?, comment 50V
VARISTOR 50V 0603; Manufacturer: Bourns Inc.; Manufacturer Part Number: CG0603MLD-12E; Supplier 1: Digi-Key; RoHS: RoHS Compliant; Category: Circuit Protection; Stock 1: 30305; Pricing 1: 1=0.27, 10=0.245, 25=0.176, 100=0.137, 250=0.08612, 500=0.07338, 1000=0.0499 (USD); Packaging: Cut Tape (CT); Part Status: Active; Energy: -; Operating Temperature: -40°C ~ 85°C (TA); Mounting Type: Surface Mount, MLCV; Package / Case: 0603 (1608 Metric); ComponentLink1URL: https://www.bourns.com/docs/Product-Datasheets/mld.pdf; ComponentLink1Description: https://www.bourns.com/docs/Product-Datasheets/mld.pdf; Supplier Part Number 1: CG0603MLD-12ECT-ND
footprint VAR_0603
pins: 1, 2

## CGA4J1X5R1C106K125AC
designator C?, comment 10uF/16V
CAP CER uF 10 16V X5R 0805; Manufacturer: TDK Corporation; Manufacturer Part Number: CGA4J1X5R1C106K125AC; Tolerance: ±10%; Supplier 1: Digi-Key; RoHS: RoHS Compliant; Category: Capacitors; Stock 1: 274726; Pricing 1: 1=0.55, 10=0.38, 100=0.2277, 500=0.17078, 1000=0.14421 (USD); Packaging: Cut Tape (CT); Part Status: Active; Voltage - Rated: 16V; Temperature Coefficient: X5R; Operating Temperature: -55°C ~ 85°C; Features: -; Ratings: AEC-Q200; Applications: Automotive; Failure Rate: -; Mounting Type: Surface Mount, MLCC; Package / Case: 0805 (2012 Metric); Size / Dimension: 0.079" L x 0.049" W (2.00mm x 1.25mm); Height - Seated (Max): -; Thickness (Max): 0.049" (1.25mm); Lead Spacing: -; Lead Style: -; ComponentLink1URL: https://product.tdk.com/info/en/catalog/datasheets/mlcc_automotive_general_en.pdf; ComponentLink1Description: https://product.tdk.com/info/en/catalog/datasheets/mlcc_automotive_general_en.pdf; Supplier Part Number 1: 445-7883-1-ND
footprint Cap_0805_1.45_h
pins: 1, 2

## CL10A105KP8NNNC
designator C?, comment 1uF/10V
CAP CER uF 1 10V X5R 0603; Manufacturer: Samsung; Manufacturer Part Number: CL10A105KP8NNNC; Tolerance: 10%; Capacitance: 1uF; Supplier 1: Digi-Key; Stock 1: 997904; Pricing 1: 4000 = 0,00658, 8000 = 0,00601, 12000 = 0,00572 (USD); RoHS: Yes; Mount: Surface Mount; Case/Package: 0603; Case Code (Metric): 1608; Case Code (Imperial): 0603; Contact Plating: Tin; Min Operating Temperature: -55°C; Max Operating Temperature: 85°C; Dielectric: X5R; Packaging: Tape and Reel; Package Quantity: 1; Voltage Rating: 10V; Voltage: 10V; Length: 1.6mm; Height: 0.8mm; Width: 0.031inch; Thickness: 0.035inch; Depth: 0.8mm; Radiation Hardening: No; ComponentLink1URL: https://datasheet.ciiva.com/15195/getdatasheetpartid-358616-15195708.pdf?src-supplier=Verical; ComponentLink1Description: https://datasheet.ciiva.com/15195/getdatasheetpartid-358616-15195708.pdf?src-supplier=Verical; ComponentLink2URL: https://datasheet.ciiva.com/16358/cl05b104kq5nnnc-16358431.pdf?src-supplier=Future+Electronics; ComponentLink2Description: https://datasheet.ciiva.com/16358/cl05b104kq5nnnc-16358431.pdf?src-supplier=Future+Electronics; Supplier Part Number 1: 1276-1182-2-ND
footprint cap_0603
pins: 1, 2

## CL10B105MO8NNWC
designator C?, comment 1uF/16V
CAP CER uF 1 16V X7R 0603
footprint cap_0603
pins: 1, 2

## CL10C471JB8NNNC
designator C?, comment 470pF/50V
CAP CER pF 470 50V C0G 5% SMD 0603 125C T/R; Manufacturer: Samsung; Manufacturer Part Number: CL10C471JB8NNNC; Material: Ceramic; Capacitance: 470pF; Temperature Coefficient: 300ppm/°C; Supplier 1: Digi-Key; Stock 1: 519282; Pricing 1: 1=0.11, 10=0.08, 100=0.0356, 500=0.02546, 1000=0.02001 (USD); Mount: Surface Mount; Case/Package: 0603; Case Code (Metric): 1608; Case Code (Imperial): 0603; Min Operating Temperature: -55°C; Max Operating Temperature: 125°C; Tolerance: 5%; Voltage Rating: 50V; Packaging: Tape and Reel; Package Quantity: 1; Dielectric: C0G; Voltage: 50V; Voltage Rating (DC): 50V; Length: 1.6mm; Height: 0.8mm; Width: 0.031inch; Thickness: 0.035inch; Depth: 0.8mm; Radiation Hardening: No; Lead Free: Lead Free; ComponentLink1URL: http://www1.futureelectronics.com/doc/SAMSUNG%20PASSIVE/CL05B104KQ5NNNC.pdf?src-supplier=Future+Electronics; ComponentLink1Description: http://www1.futureelectronics.com/doc/SAMSUNG%20PASSIVE/CL05B104KQ5NNNC.pdf?src-supplier=Future+Electronics; ComponentLink2URL: https://www.distrelec.biz/Web/Downloads/_e/ng/MLCC_CatalogDownload2013_ENG.pdf?mime=application%2Fpdf&src-supplier=Distrelec; ComponentLink2Description: https://www.distrelec.biz/Web/Downloads/_e/ng/MLCC_CatalogDownload2013_ENG.pdf?mime=application%2Fpdf&src-supplier=Distrelec; ComponentLink3URL: https://www.verical.com/server-webapp/html/getDatasheet?partID=543174&src-supplier=Verical; ComponentLink3Description: https://www.verical.com/server-webapp/html/getDatasheet?partID=543174&src-supplier=Verical; ComponentLink4URL: https://produktinfo.conrad.com/datenblaetter/450000-474999/456211-da-01-en-VS_KONDENSATOR_0603.pdf?src-supplier=Conrad; ComponentLink4Description: https://produktinfo.conrad.com/datenblaetter/450000-474999/456211-da-01-en-VS_KONDENSATOR_0603.pdf?src-supplier=Conrad; Supplier Part Number 1: 1276-1168-6-ND
footprint cap_0603
pins: 1, 2

## CL10F104ZO8NNNC
designator C?, comment 100nF/16V
CAP CER nF 100 16V Y5V 0603; Manufacturer: Samsung Electro-Mechanics; Manufacturer Part Number: CL10F104ZO8NNNC; Tolerance: -20%, +80%; Temperature Coefficient: Y5V (F); Notification: Current market demand for these product types have resulted in fluctuating and extending lead times. Lead times may differ.; Supplier 1: Digi-Key; RoHS: RoHS Compliant; Category: Capacitors; Stock 1: 40000; Pricing 1: 1=0.1, 10=0.038, 100=0.017, 500=0.01212, 1000=0.00952 (USD); Packaging: Cut Tape (CT); Part Status: Active; Voltage - Rated: 16V; Operating Temperature: -30°C ~ 85°C; Features: -; Ratings: -; Applications: General Purpose; Mounting Type: Surface Mount, MLCC; Package / Case: 0603 (1608 Metric); Size / Dimension: 0.063" L x 0.031" W (1.60mm x 0.80mm); Height - Seated (Max): -; Thickness (Max): 0.035" (0.90mm); Lead Spacing: -; Lead Style: -; ComponentLink1URL: http://www.samsungsem.com/kr/support/product-search/mlcc/CL10F104ZO8NNNC.jsp; ComponentLink1Description: http://www.samsungsem.com/kr/support/product-search/mlcc/CL10F104ZO8NNNC.jsp; Supplier Part Number 1: 1276-1258-1-ND
footprint CAP_CER_0603
pins: 1, 2

## CMT2110A-ESR
designator U?, comment CMT2110A
RF TRANSMITTER IC ASK/OOK 300-960MHZ SOT23-6 SMD; ComponentLink1Description: Datasheet; ComponentLink1URL: https://www.hoperf.com/data/upload/portal/20190624/CMT2210LH-Datasheet-EN-V0.5-180822.pdf
footprint SOT-23-6
pins: 1 XTAL, 2 GND, 3 DATA, 4 CLK, 5 RFO, 6 VDD

## CMT2210_ReceiverModule
designator MDL?
RF RECEIVER MODULE; Manufacturer: Abracon; Manufacturer Part Number: ABLS-8.000MHZ-B4-T; Frequency: 8MHz; Load Capacitance: 18pF; Frequency Tolerance: 30ppm; Frequency Stability: 50ppm; ESR (Equivalent Series Resistance): 80R; RoHS: Yes; Category: Crystals; Stock 1: 87250; Pricing 1: 1=0,32000, 10=0,26400, 50=0,23760, 100=0,21120, 500=0,20064 (USD); Mount: Surface Mount; Case/Package: SMD/SMT; Min Operating Temperature: -20°C; Max Operating Temperature: 70°C; Packaging: Tape and Reel; Package Quantity: 1000; Termination: SMD/SMT; Tolerance: 30ppm; Series Resistance: 80R; Length: 11.4mm; Width: 0.185inch; Height: 0.165inch; Depth: 4.7mm; Radiation Hardening: No; Lead Free: Lead Free; REACH SVHC: Yes; ComponentLink1URL: https://datasheet.ciiva.com/854/abls-854117.pdf?src-supplier=Digi-Key; ComponentLink1Description: https://datasheet.ciiva.com/854/abls-854117.pdf?src-supplier=Digi-Key; ComponentLink2URL: https://datasheet.ciiva.com/854/abls-854118.pdf?src-supplier=Digi-Key; ComponentLink2Description: https://datasheet.ciiva.com/854/abls-854118.pdf?src-supplier=Digi-Key; ComponentLink3URL: https://datasheet.ciiva.com/3175/abls-3175446.pdf?src-supplier=Avnet; ComponentLink3Description: https://datasheet.ciiva.com/3175/abls-3175446.pdf?src-supplier=Avnet; ComponentLink4URL: https://datasheet.ciiva.com/854/abls-854119.pdf?src-supplier=Digi-Key; ComponentLink4Description: https://datasheet.ciiva.com/854/abls-854119.pdf?src-supplier=Digi-Key; ComponentLink5URL: https://datasheet.ciiva.com/4944/abls-44621-4944748.pdf?src-supplier=Mouser; ComponentLink5Description: https://datasheet.ciiva.com/4944/abls-44621-4944748.pdf?src-supplier=Mouser
footprint CMT2210RECEIVER
footprint CMT2210RECEIVER_WITH_HEADER
pins: 1 Vcc, 2 Dt, 3 G, 4 AT

## CMT2210LH
designator U?
IC RF RX ASK/OOK 300-960MHZ 8SOIC; ComponentLink1Description: Datasheet; ComponentLink1URL: https://www.hoperf.com/data/upload/portal/20190624/CMT2210LH-Datasheet-EN-V0.5-180822.pdf
footprint SOP8
pins: 1 GND, 2 RFin, 3 Vdd5V, 4 VddL, 5 DATA, 6 NC, 7 NC, 8 XOSC

## COOLERPAD
designator CP?
footprint COOLER_PAD
pins: 1 CP

## CPDU5V0
designator TVS?
TVS DIODE 5V 15V 0603/SOD523F; Manufacturer: Comchip Technology; Voltage - Breakdown (Min): 5.1V; Current - Peak Pulse (10/1000µs): 5A (8/20µs); Power - Peak Pulse: 75W; Power Line Protection: No; Capacitance @ Frequency: 15pF @ 1MHz; Capacitance: 1uF; Voltage Rating: 16V; Tolerance: 20%; Supplier 1: Digi-Key; Manufacturer Part Number: CPDU5V0; RoHS: RoHS Compliant; Category: Circuit Protection; Stock 1: 173303; Pricing 1: 1=0.57, 10=0.399, 25=0.3272, 100=0.2617, 250=0.19036, 500=0.15466, 1000=0.11897 (USD); Packaging: Cut Tape (CT); Part Status: Active; Type: Zener; Voltage - Reverse Standoff (Typ): 5V; Voltage - Clamping (Max) @ Ipp: 15V; Applications: General Purpose; Operating Temperature: -; Mounting Type: Surface Mount; Package / Case: 2-SMD, No Lead; Supplier Device Package: 0603/SOD-523F; ComponentLink1URL: http://www.comchiptech.com/admin/files/product/CPDU%20Series-HF%20%20RevF396351.pdf; ComponentLink1Description: http://www.comchiptech.com/admin/files/product/CPDU%20Series-HF%20%20RevF396351.pdf; Supplier Part Number 1: 641-1088-1-ND; Supplier 2: Digi-Key; Stock 2: 9481228; Pricing 2: 1=0.1, 10=0.046, 100=0.0205, 500=0.01464, 1000=0.0115 (USD); Mount: Surface Mount; Case/Package: 0603; Case Code (Metric): 1608; Case Code (Imperial): 0603; Min Operating Temperature: -55°C; Max Operating Temperature: 125°C; Length: 0.063inch; Width: 0.031inch; Thickness: 0.035inch; ComponentLink2URL: https://media.digikey.com/pdf/Data%20Sheets/Samsung%20PDFs/CL10B105MO8NNWC.pdf?src-supplier=Digi-Key; ComponentLink2Description: https://media.digikey.com/pdf/Data%20Sheets/Samsung%20PDFs/CL10B105MO8NNWC.pdf?src-supplier=Digi-Key; ComponentLink3URL: http://www.farnell.com/datasheets/2710574.pdf?src-supplier=Farnell; ComponentLink3Description: http://www.farnell.com/datasheets/2710574.pdf?src-supplier=Farnell; ComponentLink4URL: http://www.farnell.com/datasheets/2710574.pdf?src-supplier=Element14; ComponentLink4Description: http://www.farnell.com/datasheets/2710574.pdf?src-supplier=Element14; ComponentLink5URL: http://www.farnell.com/datasheets/2710574.pdf?src-supplier=Newark; ComponentLink5Description: http://www.farnell.com/datasheets/2710574.pdf?src-supplier=Newark
footprint SOD523F
pins: 1 Katot, 2 Anot

## CRCW06033K60FKEA
designator R?
RES SMD 3.6K OHM 1% 1/10W 0603; Manufacturer: Vishay; Power Rating: 100mW; Resistance: 3.6kR; Voltage Rating: 75V; Temperature Coefficient: 100ppm/°C; Supplier 1: Digi-Key; Manufacturer Part Number: CRCW06033K60FKEA; Stock 1: 24710; Pricing 1: 1=0.1, 10=0.042, 100=0.017, 1000=0.00764, 2500=0.00663 (USD); Case/Package: 0603; Number of Pins: 2; Weight: 7.1E-05oz; Case Code (Metric): 1608; Case Code (Imperial): 0603; Contact Plating: Tin; Min Operating Temperature: -55°C; Max Operating Temperature: 155°C; Tolerance: 1%; Composition: Thick Film; Packaging: Tape and Reel; Voltage Rating (DC): 75V; Package Quantity: 10; Number of Terminations: 2; Termination: SMD/SMT; Military Standard: Not; Max Power Dissipation: 100mW; Features: Automotive AEC-Q200; Length: 1.55mm; Height: 0.45mm; Width: 0.033inch; Depth: 0.85mm; Radiation Hardening: No; REACH SVHC: Unknown; Lead Free: Lead Free; ComponentLink1URL: http://www.vishay.com/docs/20035/dcrcwe3.pdf?src-supplier=Digi-Key; ComponentLink1Description: http://www.vishay.com/docs/20035/dcrcwe3.pdf?src-supplier=Digi-Key; ComponentLink2URL: http://www.vishay.com/docs/20035/dcrcwe3.pdf?src-supplier=Avnet+Europe; ComponentLink2Description: http://www.vishay.com/docs/20035/dcrcwe3.pdf?src-supplier=Avnet+Europe; ComponentLink3URL: http://www.vishay.com/docs/20035/dcrcwe3.pdf?src-supplier=Future+Electronics; ComponentLink3Description: http://www.vishay.com/docs/20035/dcrcwe3.pdf?src-supplier=Future+Electronics; ComponentLink4URL: http://www.vishay.com/docs/20035/dcrcwe3.pdf?src-supplier=Avnet; ComponentLink4Description: http://www.vishay.com/docs/20035/dcrcwe3.pdf?src-supplier=Avnet; ComponentLink5URL: http://www.farnell.com/datasheets/2045673.pdf?src-supplier=Element14; ComponentLink5Description: http://www.farnell.com/datasheets/2045673.pdf?src-supplier=Element14; ComponentLink6URL: http://www.farnell.com/datasheets/2111203.pdf?src-supplier=Element14; ComponentLink6Description: http://www.farnell.com/datasheets/2111203.pdf?src-supplier=Element14; ComponentLink7URL: http://uk.rs-online.com/webdocs/0d98/0900766b80d98afc.pdf?src-supplier=RSComponents; ComponentLink7Description: http://uk.rs-online.com/webdocs/0d98/0900766b80d98afc.pdf?src-supplier=RSComponents; ComponentLink8URL: https://www.distrelec.biz/Web/Downloads/a_/en/flD-CRCW-e3_data_en.pdf?mime=application%2Fpdf&src-supplier=Distrelec; ComponentLink8Description: https://www.distrelec.biz/Web/Downloads/a_/en/flD-CRCW-e3_data_en.pdf?mime=application%2Fpdf&src-supplier=Distrelec; Supplier Part Number 1: 541-3.60KHDKR-ND
footprint R_0603
pins: 1, 2

## CRCW2512330KJNEG
designator R?, comment 330k
RES SMD 330K OHM 5% 1W 2512; Manufacturer 1: Vishay Dale; Manufacturer Part Number 1: CRCW2512330KJNEG; Resistance: 330kR; Voltage Rating: 500V; Temperature Coefficient: 200ppm/°C; Supplier 1: Digi-Key; Description 1: RES SMD 330K OHM 5% 1W 2512; Stock 1: 98800; Pricing 1: 1=0.38, 10=0.318, 100=0.1242, 1000=0.05198 (USD); Case/Package: 2512; Weight: 0.001429oz; Case Code (Metric): 6432; Case Code (Imperial): 2512; Contact Plating: Tin; Min Operating Temperature: -55°C; Max Operating Temperature: 155°C; Packaging: Tape and Reel; Tolerance: 5%; Power Rating: 1W; Package Quantity: 1; Composition: Thick Film; Number of Terminations: 2; Termination: SMD/SMT; Military Standard: Not; Max Power Dissipation: 1W; Voltage Rating (DC): 500V; Features: Automotive AEC-Q200; Length: 6.3mm; Height: 0.028inch; Width: 0.124inch; Depth: 3.15mm; Radiation Hardening: No; Lead Free: Lead Free; ComponentLink1URL: http://www.vishay.com/docs/20035/dcrcwe3.pdf?src-supplier=Future+Electronics; ComponentLink1Description: http://www.vishay.com/docs/20035/dcrcwe3.pdf?src-supplier=Future+Electronics; ComponentLink2URL: http://www.vishay.com/docs/20035/dcrcwe3.pdf?src-supplier=Digi-Key; ComponentLink2Description: http://www.vishay.com/docs/20035/dcrcwe3.pdf?src-supplier=Digi-Key; ComponentLink3URL: http://www.mouser.com/ds/2/427/dcrcwe3-109170.pdf?src-supplier=Mouser; ComponentLink3Description: http://www.mouser.com/ds/2/427/dcrcwe3-109170.pdf?src-supplier=Mouser; Supplier Part Number 1: 541-330KXCT-ND
footprint R_2512
pins: 1, 2

## D45X_Switch
designator SW?, comment D45X_Switch_MS1-16
footprint Switch_3_0.5x19.5mm
pins: 1 NC, 2 NO, 3 COM

## DCJ200-10-A-K1-K
designator J?
DC POWER JACK, THRU HOLE, HORIZO; Manufacturer: Global Connector Technology; Voltage Rating (DC): 20V; Gender: Male; Current Rating: 5A; Resistance: 47kR; Tolerance: 5%; Temperature Coefficient: 100ppm/°C; Power Rating: 125mW; Supplier 1: Digi-Key; Manufacturer Part Number: DCJ200-10-A-K1-K; Stock 1: 0; RoHS: No; Termination: Through Hole; Voltage Rating: 20V; ComponentLink1URL: http://www.farnell.com/datasheets/2342921.pdf?src-supplier=Farnell; ComponentLink1Description: http://www.farnell.com/datasheets/2342921.pdf?src-supplier=Farnell; Supplier Part Number 1: 2073-DCJ200-10-A-K1-K-ND; Supplier 2: Digi-Key; Category: Chip SMD Resistors; Stock 2: 281100; Pricing 2: 1=0,10000, 10=0,03600, 100=0,01450, 1000=0,00652, 2500=0,00566 (USD); Case/Package: 0805; Contact Plating: Tin,Lead,Matte; Case Code (Imperial): 0805; Case Code (Metric): 2012; Size Code: 0805; Min Operating Temperature: -55°C; Max Operating Temperature: 155°C; Packaging: Tape and Reel; Resistor Type: Thick Film; Features: Moisture Resistant; Series: RC; Max Power Dissipation: 125mW; Number of Terminations: 2; Resistance Tolerance: 5%; Construction: Rectangular; Length: 2mm; Depth: 1.25mm; Radiation Hardening: No; REACH SVHC: Unknown; Lead Free: Lead Free; Military Standard: Not; RoHS Compliant: Yes; ComponentLink2URL: https://datasheet.ciiva.com/17200/rc0805-17200744.pdf?src-supplier=Future+Electronics; ComponentLink2Description: https://datasheet.ciiva.com/17200/rc0805-17200744.pdf?src-supplier=Future+Electronics; ComponentLink3URL: https://datasheet.ciiva.com/7941/442941-7941967.pdf?src-supplier=Element14; ComponentLink3Description: https://datasheet.ciiva.com/7941/442941-7941967.pdf?src-supplier=Element14
footprint JACK_DC_POWER
pins: 1 +, 2 -

## DE2E3KY472MN3AM02F
designator C?, comment 4.7nF/250Vac
CAP CER nF 4.7 250VAC RADIAL; Manufacturer 1: Murata; Manufacturer Part Number 1: DE2E3KY472MN3AM02F; Description 1: CAP CER 4700PF 250VAC RADIAL; Capacitance: 4.7nF; Tolerance: 20%; Lead/Base Style: Straight; Ratings: X1,Y2; Supplier 1: Digi-Key; Stock 1: 103358; Pricing 1: 1=0.59, 10=0.414, 100=0.2729 (USD); Mount: Through Hole; Case/Package: Radial; Min Operating Temperature: -25°C; Max Operating Temperature: 85°C; Package Quantity: 900; Packaging: Tape and Reel; Height - Seated (Max): 0.512inch; Lead Pitch: 0.295inch; Lead Free: Lead Free; ComponentLink1URL: http://search.murata.co.jp/Ceramy/image/img/A01X/partnumbering_e_05.pdf?src-supplier=Digi-Key; ComponentLink1Description: http://search.murata.co.jp/Ceramy/image/img/A01X/partnumbering_e_05.pdf?src-supplier=Digi-Key; Supplier Part Number 1: 490-9562-1-ND
footprint 10D201K_Varistor
pins: 1, 2